# EAGLE library part IMM-NRF52840 (library IMM-NRF5x)
Nordic nRF52840 based ARM M4F, Bluetooth 5, Thread, Zigbee Module 14x9x1.6mm
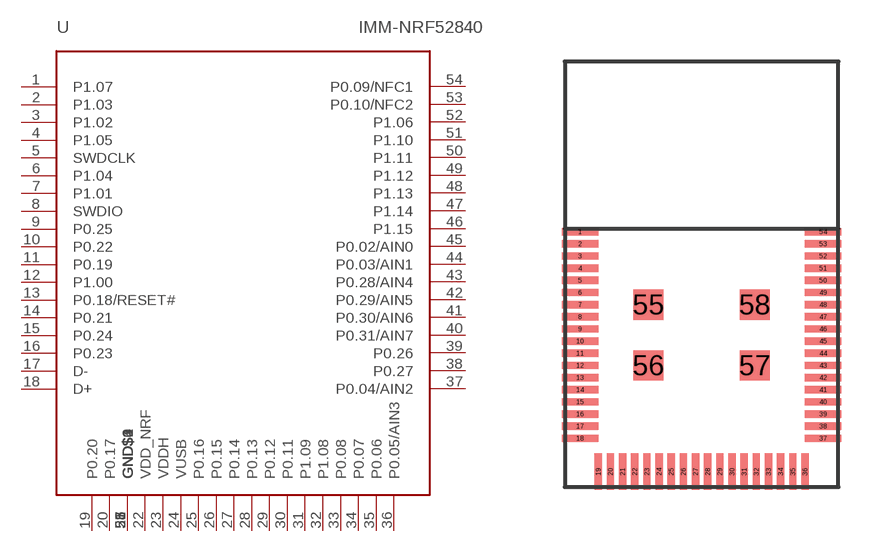
[diagram p2: symbol with the pads of IMM-NRF52840; footprint IMM-NRF52840]

Designator prefix -

## IMM-NRF52840  [IMM-NRF52840]
1  P1.07
2  P1.03
3  P1.02
4  P1.05
5  SWDCLK
6  P1.04
7  P1.01
8  SWDIO
9  P0.25
10  P0.22
11  P0.19
12  P1.00
13  P0.18/RESET#
14  P0.21
15  P0.24
16  P0.23
17  D-
18  D+
19  P0.20
20  P0.17
21  GND$0  pas
22  VDD_NRF  pwr
23  VDDH  pwr
24  VUSB  pwr
25  P0.16
26  P0.15
27  P0.14
28  P0.13
29  P0.12
30  P0.11
31  P1.09
32  P1.08
33  P0.08
34  P0.07
35  P0.06
36  P0.05/AIN3
37  P0.04/AIN2
38  P0.27
39  P0.26
40  P0.31/AIN7
41  P0.30/AIN6
42  P0.29/AIN5
43  P0.28/AIN4
44  P0.03/AIN1
45  P0.02/AIN0
46  P1.15
47  P1.14
48  P1.13
49  P1.12
50  P1.11
51  P1.10
52  P1.06
53  P0.10/NFC2
54  P0.09/NFC1
55  GND$1  pas
56  GND$2  pas
57  GND$3  pas
58  GND$4  pas

## Footprint IMM-NRF52840 (pad centres in mm)
smd 1.2 x 0.24: 1 -4,1.4; 2 -4,1; 3 -4,0.6; 4 -4,0.2; 5 -4,-0.2; 6 -4,-0.6; 7 -4,-1; 8 -4,-1.4; 9 -4,-1.8; 10 -4,-2.2; 11 -4,-2.6; 12 -4,-3; 13 -4,-3.4; 14 -4,-3.8; 15 -4,-4.2; 16 -4,-4.6; 17 -4,-5; 18 -4,-5.4; 37 4,-5.4; 38 4,-5; 39 4,-4.6; 40 4,-4.2; 41 4,-3.8; 42 4,-3.4; 43 4,-3; 44 4,-2.6; 45 4,-2.2; 46 4,-1.8; 47 4,-1.4; 48 4,-1; 49 4,-0.6; 50 4,-0.2; 51 4,0.2; 52 4,0.6; 53 4,1; 54 4,1.4
smd 0.24 x 1.2: 19 -3.4,-6.5; 20 -3,-6.5; 21 -2.6,-6.5; 22 -2.2,-6.5; 23 -1.8,-6.5; 24 -1.4,-6.5; 25 -1,-6.5; 26 -0.6,-6.5; 27 -0.2,-6.5; 28 0.2,-6.5; 29 0.6,-6.5; 30 1,-6.5; 31 1.4,-6.5; 32 1.8,-6.5; 33 2.2,-6.5; 34 2.6,-6.5; 35 3,-6.5; 36 3.4,-6.5
smd 1 x 1: 55 -1.75,-1; 56 -1.75,-3; 57 1.75,-3; 58 1.75,-1